# EAGLE library part MKDS10 (library con-phoenix-508)
Screw Connector
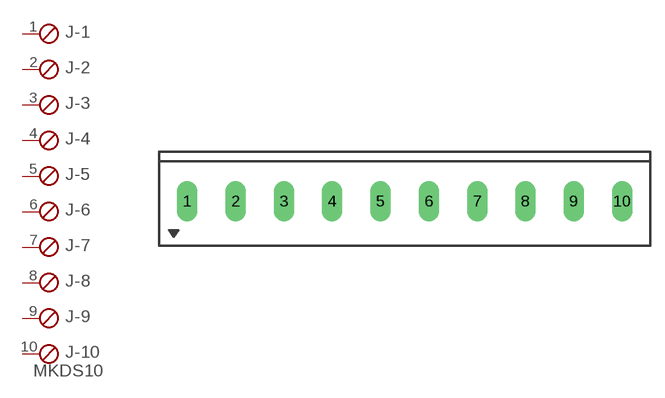
[diagram p64: symbol with the pads of MKDS10; footprint MKDS10]

Designator prefix J; gates -1=STB -2=STB -3=STB -4=STB -5=STB -6=STB -7=STB -8=STB -9=STB -10=STBV

## MKDS10  [MKDS10]
1  -1:1  pas
2  -2:1  pas
3  -3:1  pas
4  -4:1  pas
5  -5:1  pas
6  -6:1  pas
7  -7:1  pas
8  -8:1  pas
9  -9:1  pas
10  -10:1  pas

## Footprint MKDS10 (pad centres in mm)
MKDS 5.08 mm pitch
drill 1.422 long: 1 -22.86,0; 2 -17.78,0; 3 -12.7,0; 4 -7.62,0; 5 -2.54,0; 6 2.54,0; 7 7.62,0; 8 12.7,0; 9 17.78,0; 10 22.86,0